# EAGLE library part SPT-4P (library Traficon)
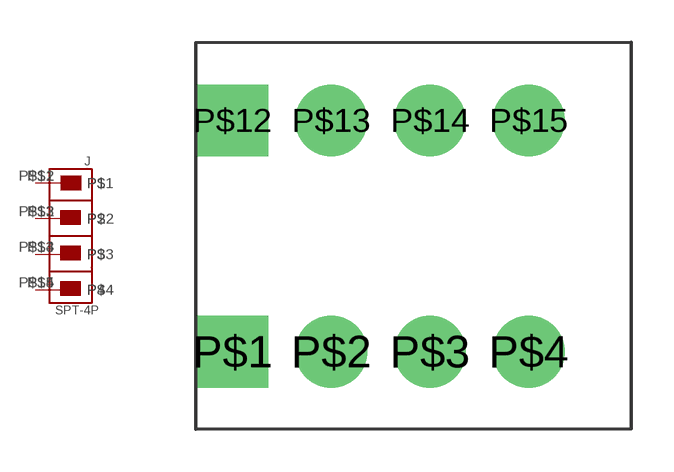
[diagram p217: symbol with the pads of SPT-4P; footprint SPT-4P]

Designator prefix J

## SPT-4P  [SPT-4P]
P$1  P$1
P$2  P$2
P$3  P$3
P$4  P$4
P$12  P1
P$13  P2
P$14  P3
P$15  P4

## Footprint SPT-4P (pad centres in mm)
drill 1.1 pad 2.54 square: P$1 1.27,-3.81; P$12 1.27,4.39
drill 1.1 pad 2.54 round: P$2 4.77,-3.81; P$3 8.27,-3.81; P$4 11.77,-3.81; P$13 4.77,4.39; P$14 8.27,4.39; P$15 11.77,4.39